# EAGLE library part SCHIRMBLECH100MM (library Lasser)
Screening Strip Perancea LTD SS185/25 Farnell 522-272
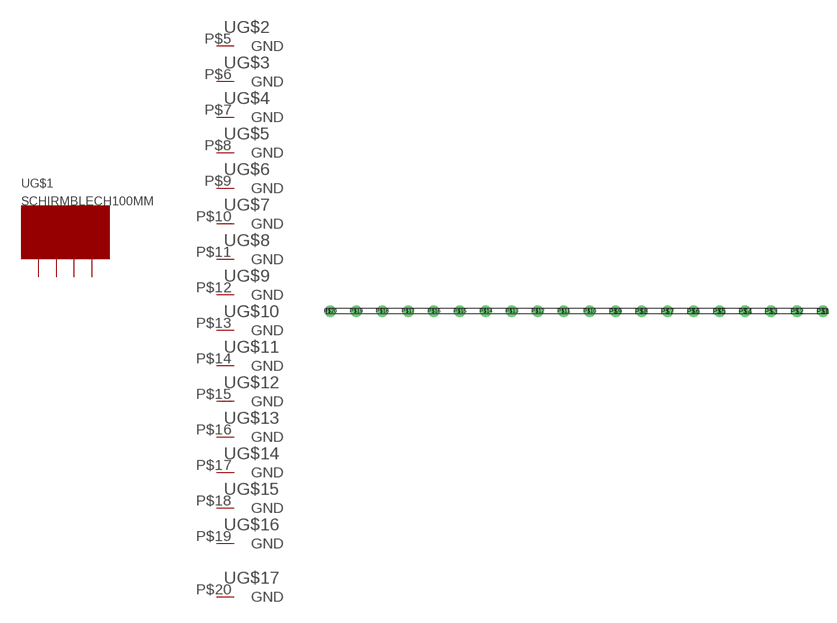
[diagram p11: symbol with the pads of SCREENINGSTRIP; footprint SCREENINGSTRIP]

Designator prefix -; gates G$1=SCHIRMGEHÄUSE G$2=GND G$3=GND G$4=GND G$5=GND G$6=GND G$7=GND G$8=GND G$9=GND G$10=GND G$11=GND G$12=GND G$13=GND G$14=GND G$15=GND G$16=GND G$17=GND

## SCHIRMBLECH100MM  [SCREENINGSTRIP]
P$1  G$1:P$1
P$2  G$1:P$2
P$3  G$1:P$3
P$4  G$1:P$4
P$5  G$2:GND  pwr
P$6  G$3:GND  pwr
P$7  G$4:GND  pwr
P$8  G$5:GND  pwr
P$9  G$6:GND  pwr
P$10  G$7:GND  pwr
P$11  G$8:GND  pwr
P$12  G$9:GND  pwr
P$13  G$10:GND  pwr
P$14  G$11:GND  pwr
P$15  G$12:GND  pwr
P$16  G$13:GND  pwr
P$17  G$14:GND  pwr
P$18  G$15:GND  pwr
P$19  G$16:GND  pwr
P$20  G$17:GND  pwr

## Footprint SCREENINGSTRIP (pad centres in mm)
drill 1.5 round: P$1 0,0; P$2 -5.08,0; P$3 -10.16,0; P$4 -15.24,0; P$5 -20.32,0; P$6 -25.4,0; P$7 -30.48,0; P$8 -35.56,0; P$9 -40.64,0; P$10 -45.72,0; P$11 -50.8,0; P$12 -55.88,0; P$13 -60.96,0; P$14 -66.04,0; P$15 -71.12,0; P$16 -76.2,0; P$17 -81.28,0; P$18 -86.36,0; P$19 -91.44,0; P$20 -96.52,0